# Altium integrated library GPA-PWR-06.IntLib: 2 symbols
Pins are listed as number, name and electrical type; pins without a type are passive.

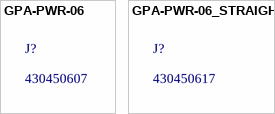
[diagram p0: symbols GPA-PWR-06 to GPA-PWR-06_STRAIGHT]

## GPA-PWR-06
designator J?, comment 430450607
Micro-Fit 3.0 Right-Angle Header, 3.00mm Pitch, Dual Row, 6 Circuits, with PCB Press-fit Metal Retention Clip, Gold, Glow-Wire Capable, Black, Tape and Reel; Supplier 1: Digi-Key; Supplier Part Number 1: WM10713CT-ND; Supplier 2: Digi-Key; Supplier Part Number 2: WM10713DKR-ND; Supplier 3: Digi-Key; Supplier Part Number 3: WM10713TR-ND; Supplier 4: Mouser; Supplier Part Number 4: 538-43045-0607
footprint 430450607

## GPA-PWR-06_STRAIGHT
designator J?, comment 430450617
Micro-Fit 3.0 Vertical Header, 3.00mm Pitch, Dual Row, 6 Circuits, with PCB Press-fit Metal Retention Clip, Gold, Glow-Wire Capable, Black, Tape and Reel; Supplier 1: Digi-Key; Supplier Part Number 1: WM23255CT-ND; Supplier 2: Digi-Key; Supplier Part Number 2: WM23255DKR-ND; Supplier 3: Digi-Key; Supplier Part Number 3: WM23255TR-ND; Supplier 4: Mouser; Supplier Part Number 4: 538-43045-0617
footprint 430450617